# Altium footprint library 3 Pin 100 mil Horizontal Header - Through Hole.PcbLib: 1 footprints
Each footprint in its own frame and in the unit in brackets; x right, y up, seen from the top. Pads: shape width x height; smd on the part's side, far side on the other; paste and mask are expansions set on the pad; w line width, h text height; cw(c..) or ccw(c..) is an arc to the next point about the centre after c.
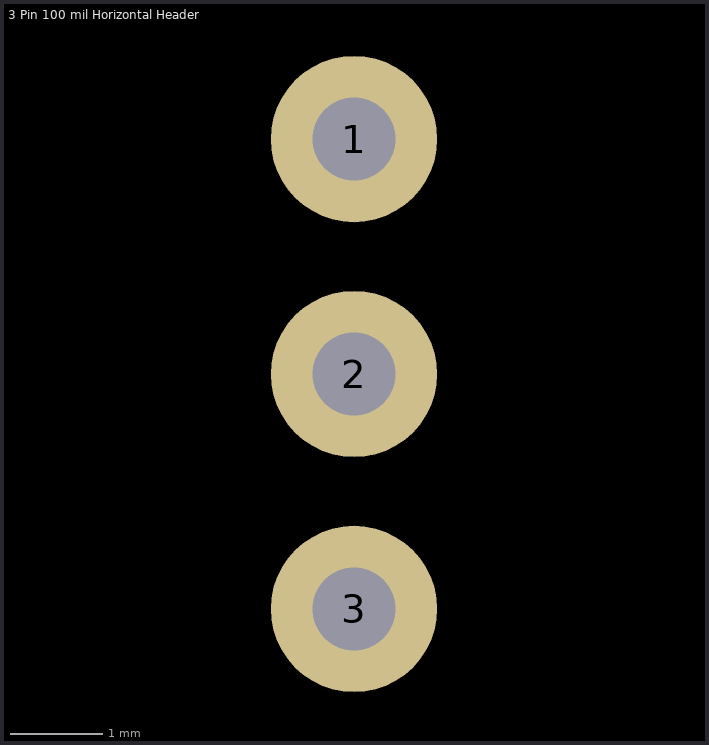
[diagram p0: the footprint, top view; thin cyan lines are the x and y axes]

## 3 Pin 100 mil Horizontal Header [mm]
pads (3):
  round 1.8 hole 0.9: 1(16.51,-15.367) 2(16.51,-17.907) 3(16.51,-20.447)
3D body "Header 3 pin.STEP": height 6, standoff -2.5, extent 16.31,-22.987 23.51,-12.827